# Altium footprint library 上板20130801.PcbLib: 22 footprints (part 2 of 2)
Each footprint in its own frame and in the unit in brackets; x right, y up, seen from the top. Pads: shape width x height; smd on the part's side, far side on the other; paste and mask are expansions set on the pad; w line width, h text height; cw(c..) or ccw(c..) is an arc to the next point about the centre after c.
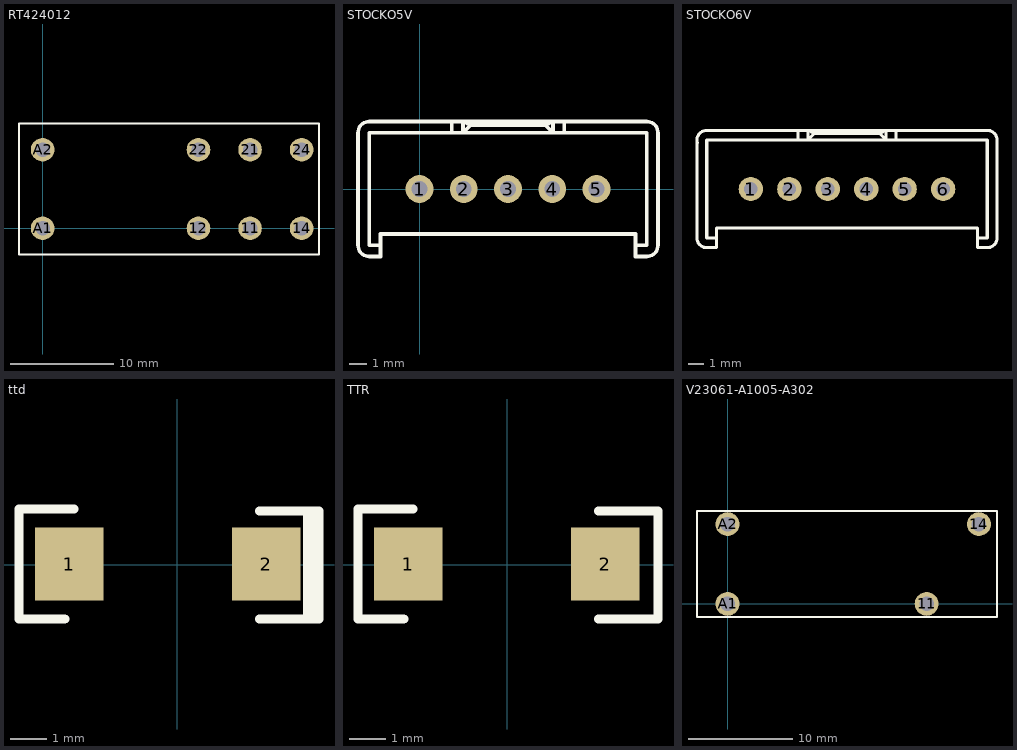
[diagram p1: the footprints below, top view; thin cyan lines are the x and y axes]

## RT424012 [mil]
pads (8):
  round 90 hole 55: 11(791.85,0) 12(595,0) 14(988.7,0) 21(791.85,300) 22(595,300) 24(988.7,300) A1(0,0) A2(0,300)
Top Overlay:
  lines w8: -90,-100 -90,400 1055,400 1055,-100 -90,-100

## STOCKO5V [mil]
pads (5):
  round 62 hole 35: 1(0,0) 2(98.33,0) 3(196.67,0) 4(295,0) 5(393.33,0)
Top Overlay:
  lines w7.87: -86.67,-125 -111.67,-125 -111.67,125 505,125 505,-125 480,-125 ; 71.67,125 71.67,150 ; 321.67,125 321.67,150 ; 113.33,141.67 96.67,125 96.67,150 113.33,141.67 ; 113.33,141.67 280,141.67 ; 280,141.67 296.67,125 296.67,150 280,141.67 ; -136.67,-125 ccw(c-111.67,-125) -111.67,-150 -86.67,-150 -86.67,-100 480,-100 480,-150 505,-150 ccw(c505,-125) 530,-125 530,125 ccw(c505,125) 505,150 -111.67,150 ccw(c-111.67,125) -136.67,125 -136.67,-125

## STOCKO6V [mil]
pads (6):
  round 62 hole 35: 1(12880,7660) 2(12978.33,7660) 3(13076.67,7660) 4(13175,7660) 5(13273.33,7660) 6(13371.67,7660)
Top Overlay:
  lines w7.87: 12742.5,7785 12742.5,7535 ccw(c12767.5,7535) 12767.5,7510 12792.5,7510 12792.5,7560 13459.17,7560 13459.17,7510 13484.17,7510 ccw(c13484.17,7535) 13509.17,7535 13509.17,7785 ccw(c13484.17,7785) 13484.17,7810 12767.5,7810 ccw(c12767.5,7785) 12743.72,7777.27 ; 12792.5,7535 12767.5,7535 12767.5,7785 13484.17,7785 13484.17,7535 13459.17,7535 ; 13000.83,7785 13000.83,7810 ; 13250.83,7785 13250.83,7810 ; 13042.5,7801.67 13025.83,7810 13025.83,7785 13042.5,7801.67 ; 13042.5,7801.67 13209.17,7801.67 ; 13209.17,7801.67 13225.83,7810 13225.83,7785 13209.17,7801.67

## ttd [mil]
pads (2):
  rect 75x80 smd: 1(-117.94,0.6) 2(97.07,0.6)
Top Overlay:
  lines w10: -172.93,-59.4 -122.93,-59.4 ; -172.93,-57.4 -172.93,58.6 ; -172.93,60.6 -112.93,60.6 ; 89.57,-59.4 154.56,-59.4 ; 89.57,58.6 154.56,58.6 154.56,-57.4 ; 142.07,-57.4 142.07,58.6 ; 147.06,-57.4 147.06,58.6

## TTR [mil]
pads (2):
  rect 75x80 smd: 1(-107.94,0.6) 2(107.07,0.6)
Top Overlay:
  lines w10: -162.93,-59.4 -112.93,-59.4 ; -162.93,-57.4 -162.93,58.6 ; -162.93,60.6 -102.93,60.6 ; 99.57,-59.4 164.56,-59.4 ; 99.57,58.6 164.56,58.6 164.56,-57.4

## V23061-A1005-A302 [mil]
pads (4):
  round 90 hole 55: 11(750,0) 14(946.85,300) A1(0,0) A2(0,300)
Top Overlay:
  lines w8: -115,-50 1015,-50 1015,350 -115,350 -115,-50